# Altium footprint library SDR1806-2R2ML.PcbLib: 1 footprints
Each footprint in its own frame and in the unit in brackets; x right, y up, seen from the top. Pads: shape width x height; smd on the part's side, far side on the other; paste and mask are expansions set on the pad; w line width, h text height; cw(c..) or ccw(c..) is an arc to the next point about the centre after c.
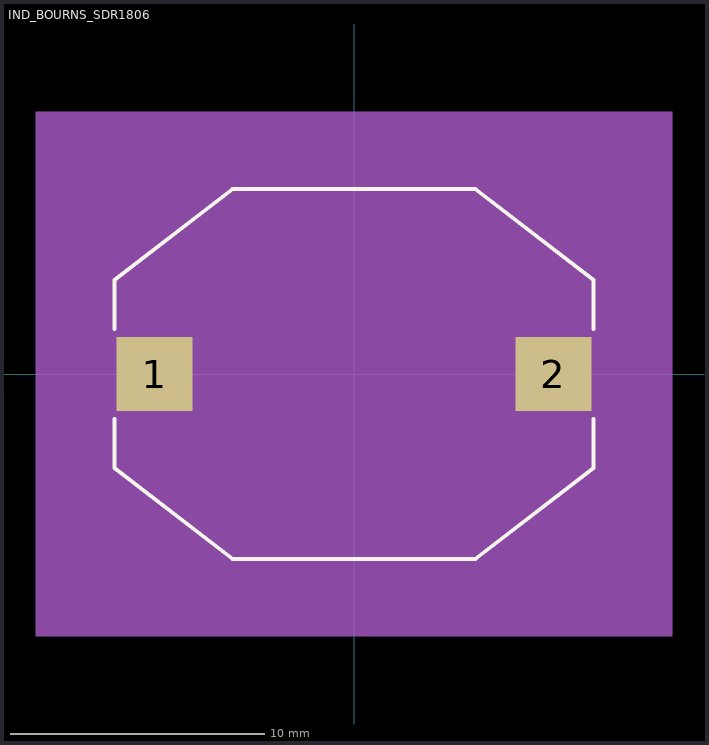
[diagram p0: the footprint, top view; thin cyan lines are the x and y axes]

## IND_BOURNS_SDR1806 [mil]
pads (2):
  rect 118x114 smd paste+0 mask+0: 1(-309,0) 2(309,0)
Top Overlay:
  lines w6: -371,-69.75 -371,-146 -188,-286.5 188,-286.5 371,-146 371,-69.75 ; -371,69.75 -371,146 -188,286.5 188,286.5 371,146 371,69.75
Mechanical 5:
  region: 493,-406.5 -493,-406.5 -493,406.5 493,406.5
Mechanical 13:
  circle w0: c-351,0 r0
  lines w1: -366,-141 -183,-281.5 183,-281.5 366,-141 366,141 183,281.5 -183,281.5 -366,141 -366,-141
Mechanical 15:
  region: -378,-67 -378,67 -270,291.5 270,291.5 378,67 378,-67 270,-291.5 -270,-291.5
  lines w6: -378,-67 -378,67 -270,291.5 270,291.5 378,67 378,-67 270,-291.5 -270,-291.5 -378,-67
3D body "IND_BOURNS_SDR1806.step": height 284.02, standoff 0, extent -377.99,-281.5 377.99,281.5